# Altium footprint library NG_Mechanical.PcbLib: 18 footprints (part 1 of 2)
Each footprint in its own frame and in the unit in brackets; x right, y up, seen from the top. Pads: shape width x height; smd on the part's side, far side on the other; paste and mask are expansions set on the pad; w line width, h text height; cw(c..) or ccw(c..) is an arc to the next point about the centre after c.
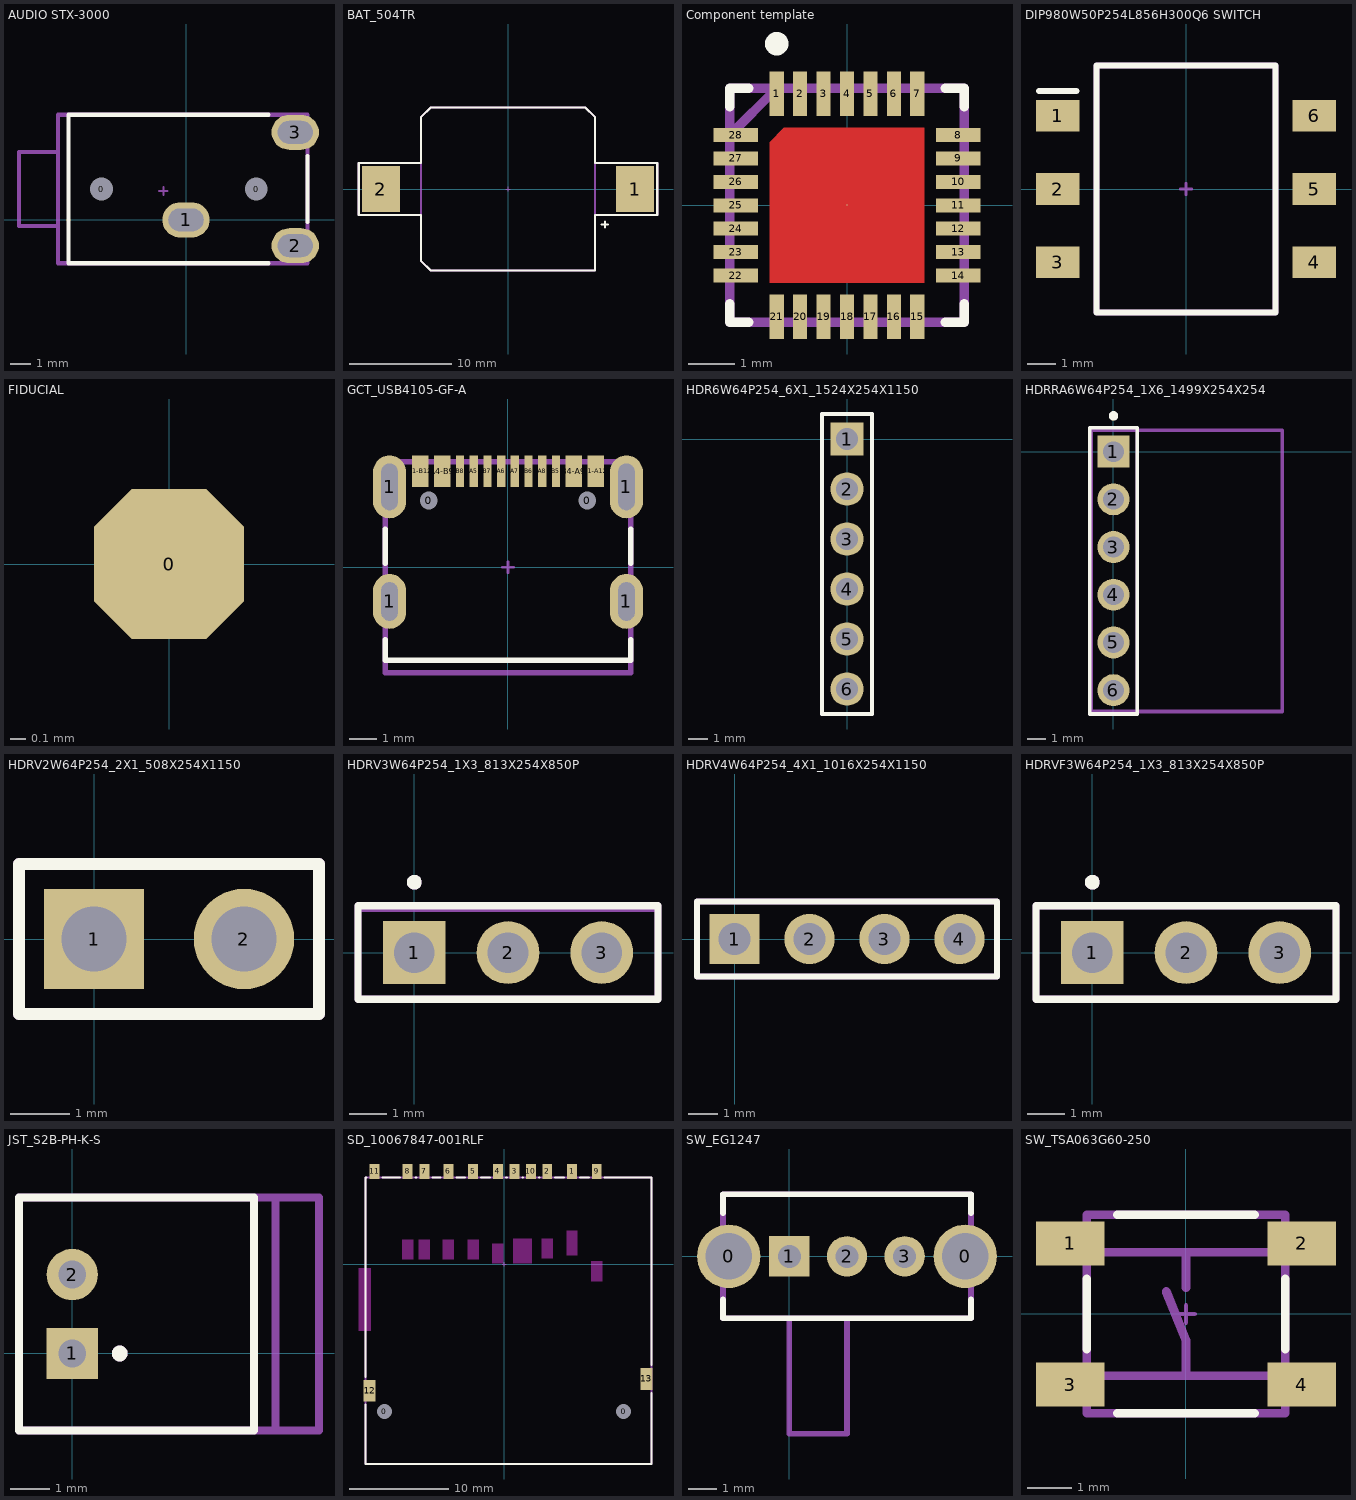
[diagram p0: the footprints below, top view; thin cyan lines are the x and y axes]

## AUDIO STX-3000 [mm] "3.5mm Audio connector, 3POS"
height 6
pads (5):
  round 0.5 hole 1.1 unplated mask+0.05: 0(-4.1,1.5) 0(3.4,1.5)
  oval 2.3x1.7 hole 1.1 slot 1.7 at 0 deg mask+0.05: 1(0,0) 2(5.3,-1.25) 3(5.3,4.25)
Top Overlay:
  lines w0.2: 4,-2.1 -5.7,-2.1 -5.7,5.1 4,5.1 ; 5.9,-0.1 5.9,3.1
Mechanical 4:
  text ".Designator" at -4.199,1.033 h0.8
Top Component Center:
  lines w0.1: -1.3,1.4 -0.9,1.4 ; -1.1,1.2 -1.1,1.6
Top Component Outline:
  lines w0.2: -6.2,-0.3 -6.2,-2.1 5.9,-2.1 5.9,5.1 -6.2,5.1 -6.2,3.3 ; -6.2,-0.3 -6.2,3.3 ; -6.2,-0.3 -8.1,-0.3 -8.1,1.5 -8.1,3.3 -6.2,3.3
Top Assembly:
  lines w0.2: -6.2,-0.3 -6.2,-2.1 5.9,-2.1 5.9,5.1 -6.2,5.1 -6.2,3.3 ; -6.2,-0.3 -6.2,3.3 ; -6.2,-0.3 -8.1,-0.3 -8.1,1.5 -8.1,3.3 -6.2,3.3
  text ".Comment" at -3.939,0.992 h1.02
3D body "STX-3000.stp": height 5.99, standoff -2.66, extent -8.1,-2.1 5.866,5.1

## BAT_504TR [mm] "Generic description"
height 0.8
pads (2):
  rect 3.75x4.5 smd mask+0.05: 1(12.475,0) 2(-12.475,0)
Top Overlay:
  lines w0.2: 9.2,-3.5 9.8,-3.5 ; 9.5,-3.8 9.5,-3.2 ; -14.65,-2.55 -14.65,2.55 -8.525,2.55 -8.525,7.075 -7.6,8 7.6,8 8.525,7.075 8.525,2.55 14.65,2.55 14.65,-2.55 8.525,-2.55 8.525,-8 -7.6,-8 -8.525,-7.075 -8.525,-2.55 -14.65,-2.55
Mechanical 4:
  text ".Designator" at 0.15,0.417 h0.8
Top Component Center:
  lines w0.1: -0.2,0 0.2,0 ; 0,-0.2 0,0.2
Top Component Outline:
  lines w0.2: -8.525,-2.55 -14.65,-2.55 -14.65,2.55 -8.525,2.55 ; 8.525,-2.55 14.65,-2.55 14.65,2.55 8.525,2.55 ; -8.525,-7.075 -7.6,-8 8.525,-8 8.525,7.075 7.6,8 -7.6,8 -8.525,7.075 -8.525,-7.075
Top Assembly:
  lines w0.2: -8.525,-2.55 -14.65,-2.55 -14.65,2.55 -8.525,2.55 ; 8.525,-2.55 14.65,-2.55 14.65,2.55 8.525,2.55 ; -8.525,-7.075 -7.6,-8 8.525,-8 8.525,7.075 7.6,8 -7.6,8 -8.525,7.075 -8.525,-7.075
  text ".Comment" at -3.639,-0.508 h1.02
3D body "504TR.step": height 5.38, standoff -0.15, extent -14.338,-8.001 14.338,8.001

## Component template [mm] "Generic description"
height 0.8
pads (29):
  rect 0.3x0.95 smd: 1(-1.5,2.38) 2(-1,2.38) 3(-0.5,2.38) 4(0,2.38) 5(0.5,2.38) 6(1,2.38) 7(1.5,2.38) 15(1.5,-2.38) 16(1,-2.38) 17(0.5,-2.38) 18(0,-2.38) 19(-0.5,-2.38) 20(-1,-2.38) 21(-1.5,-2.38)
  rect 0.95x0.3 smd: 8(2.38,1.5) 9(2.38,1) 10(2.38,0.5) 11(2.38,0) 12(2.38,-0.5) 13(2.38,-1) 14(2.38,-1.5) 22(-2.38,-1.5) 23(-2.38,-1) 24(-2.38,-0.5) 25(-2.38,0) 26(-2.38,0.5) 27(-2.38,1) 28(-2.38,1.5)
  round 0.025 smd: 29(0,0)
Top Layer:
  region: -1.65,-1.65 -1.65,1.35 -1.35,1.65 1.65,1.65 1.65,-1.65
Top Overlay:
  circle w0.3: c-1.5,3.45 r0.1
  lines w0.2: -2.5,-2.1 -2.5,-2.5 -2.1,-2.5 ; -2.5,2.1 -2.5,2.5 -2.1,2.5 ; 2.1,-2.5 2.5,-2.5 2.5,-2.1 ; 2.1,2.5 2.5,2.5 2.5,2.1
Mechanical 4:
  text ".Designator" at 0.15,0.417 h0.8
Top Component Center:
  lines w0.1: -0.2,0 0.2,0 ; 0,-0.2 0,0.2
Top Component Outline:
  lines w0.2: -2.5,1.5 -1.5,2.5 ; -2.5,-2.5 -2.5,2.5 2.5,2.5 2.5,-2.5 -2.5,-2.5
3D body "21-0140L_T2855-8_MXM.step": height 0.81, standoff 0, extent -2.553,-2.553 2.553,2.553

## DIP980W50P254L856H300Q6 SWITCH [mm] "DIP SWITCH 3WAY"
height 3
pads (6):
  rect 1.5x1.1 smd mask+0.05: 1(-4.45,2.54) 2(-4.45,0) 3(-4.45,-2.54) 4(4.45,-2.54) 5(4.45,0) 6(4.45,2.54)
Top Overlay:
  lines w0.2: -5.1,3.4 -3.8,3.4 ; -3.1,-4.28 -3.1,4.28 3.1,4.28 3.1,-4.28 -3.1,-4.28
Mechanical 4:
  text ".Designator" at 0.267,-3.999 h0.8
Top Component Center:
  lines w0.1: -0.2,0 0.2,0 ; 0,-0.2 0,0.2
Top Component Outline:
  lines w0.2: -3.1,-4.28 3.1,-4.28 3.1,4.28 -3.1,4.28 -3.1,-4.28
Top Assembly:
  lines w0.2: -3.1,-4.28 3.1,-4.28 3.1,4.28 -3.1,4.28 -3.1,-4.28
  text ".Comment" at 0.508,-3.639 h1.02
3D body "A6S_3101_H.step": height 3.7, standoff 0, extent -4.9,-4.24 4.9,4.32

## FIDUCIAL [mm]
pads (1):
  oct 1x1 smd mask-2539.97: 0(0,0)
Top Solder:
  region: -0.5,-1 -1,-0.5 -1,0.5 -0.5,1 0.5,1 1,0.5 1,-0.5 0.5,-1

## GCT_USB4105-GF-A [mm] "CONN USB 2.0 TYPE C"
height 3.31
pads (18):
  round 0.5 hole 0.65 unplated mask+0.102: 0(-2.89,2.428) 0(2.89,2.428)
  oval 1.2x2 hole 0.6 slot 1.4 at 90 deg mask+0.05: 1(-4.32,-1.252) 1(4.32,-1.252)
  oval 1.2x2.3 hole 0.6 slot 1.7 at 90 deg mask+0.05: 1(-4.32,2.927) 1(4.32,2.927)
  rect 0.6x1.15 smd mask+0.05: A1-B12(-3.2,3.503) A4-B9(-2.4,3.503) B1-A12(3.2,3.503) B4-A9(2.4,3.503)
  rect 0.3x1.15 smd mask+0.05: A5(-1.25,3.503) A6(-0.25,3.503) A7(0.25,3.503) A8(1.25,3.503) B5(1.75,3.503) B6(0.75,3.503) B7(-0.75,3.503) B8(-1.75,3.503)
Top Overlay:
  lines w0.2: -4.47,-2.652 -4.47,-3.4 4.47,-3.4 4.47,-2.652 ; -4.47,0.148 -4.47,1.378 ; 4.47,0.148 4.47,1.378
Mechanical 4:
  text ".Designator" at 0.15,0.414 h0.8
Top Component Center:
  lines w0.1: -0.2,-0.002 0.2,-0.002 ; 0,-0.202 0,0.198
Top Component Outline:
  lines w0.2: -4.47,-3.852 4.47,-3.852 4.47,3.848 -4.47,3.848 -4.47,-3.852
Top Assembly:
  lines w0.2: -4.475,-3.85 -4.475,3.85 4.475,3.85 4.475,-3.85 -4.475,-3.85
  text ".Comment" at -3.639,-0.508 h1.02
3D body "USB4105-GF-A-120.stp": height 3.26, standoff -1.2, extent -4.47,-3.852 4.47,3.848

## HDR6W64P254_6X1_1524X254X1150 [mm] "Pin header 6X1 right angle"
height 2.54
pads (6):
  rect 1.7x1.7 hole 1.1 mask+0.05: 1(0,0)
  round 1.7 hole 1.1 mask+0.05: 2(0,-2.54) 3(0,-5.08) 4(0,-7.62) 5(0,-10.16) 6(0,-12.7)
Top Overlay:
  lines w0.2: -1.27,-13.97 1.27,-13.97 1.27,1.27 -1.27,1.27 -1.27,-13.97
Mechanical 4:
  text ".Designator" at 0.15,0.417 h0.8
Top Component Center:
  lines w0.1: -0.2,0 0.2,0 ; 0,-0.2 0,0.2
Top Component Outline:
  lines w0.2: -1.27,-13.97 1.27,-13.97 1.27,1.27 -1.27,1.27 -1.27,-13.97
Top Assembly:
  lines w0.2: -1.27,-13.97 1.27,-13.97 1.27,1.27 -1.27,1.27 -1.27,-13.97
  text ".Comment" at 0.508,-9.989 h1.02

## HDRRA6W64P254_1X6_1499X254X254 [mm] "Pin header 6X1 right angle"
height 2.54
pads (6):
  rect 1.7x1.7 hole 1.1 mask+0.05: 1(0,0)
  round 1.7 hole 1.1 mask+0.05: 2(0,-2.54) 3(0,-5.08) 4(0,-7.62) 5(0,-10.16) 6(0,-12.7)
Top Overlay:
  circle w0.3: c0,1.905 r0.1
  lines w0.2: -1.27,-13.97 1.27,-13.97 1.27,1.27 -1.27,1.27 -1.27,-13.97
Mechanical 4:
  text ".Designator" at 0.15,0.417 h0.8
Top Component Center:
  lines w0.1: -0.2,0 0.2,0 ; 0,-0.2 0,0.2
Top Component Outline:
  lines w0.2: -1.194,-13.843 -1.194,1.143 8.992,1.143 8.992,-13.843 -1.194,-13.843
Top Assembly:
  lines w0.2: -1.27,-13.97 -1.27,1.27 1.27,1.27 1.27,-13.97 -1.27,-13.97
  text ".Comment" at 0.508,-9.989 h1.02
3D body "022052061.stp": height 5.92, standoff -3.53, extent -1.181,-13.843 8.992,1.143

## HDRV2W64P254_2X1_508X254X1150 [mm] "Generic description"
height 0.8
pads (2):
  rect 1.7x1.7 hole 1.1 mask+0.05: 1(0,0)
  round 1.7 hole 1.1 mask+0.05: 2(2.54,0)
Top Overlay:
  lines w0.2: -1.27,-1.27 -1.27,1.27 3.81,1.27 3.81,-1.27 -1.27,-1.27
Mechanical 4:
  text ".Designator" at 0.15,0.417 h0.8
Top Component Center:
  lines w0.1: -0.2,0 0.2,0 ; 0,-0.2 0,0.2
Top Component Outline:
  lines w0.2: -1.27,-1.27 -1.27,1.27 3.81,1.27 3.81,-1.27 -1.27,-1.27
Top Assembly:
  lines w0.2: -1.27,-1.27 -1.27,1.27 3.81,1.27 3.81,-1.27 -1.27,-1.27
  text ".Comment" at -2.369,-0.508 h1.02
3D body "61300211121_Download_STP_61300211121_rev1.stp": height 8.54, standoff -3, extent -1.27,-1.27 3.81,1.27

## HDRV3W64P254_1X3_813X254X850P [mm] "Generic description"
height 0.8
pads (3):
  rect 1.7x1.7 hole 1.1 mask+0.05: 1(0,0)
  round 1.7 hole 1.1 mask+0.05: 2(2.54,0) 3(5.08,0)
Top Overlay:
  circle w0.2: c0,1.905 r0.1
  lines w0.2: -1.524,-1.27 -1.524,1.27 6.604,1.27 6.604,-1.27 -1.524,-1.27
Mechanical 4:
  text ".Designator" at 0.15,0.417 h0.8
Top Component Center:
  lines w0.1: -0.2,0 0.2,0 ; 0,-0.2 0,0.2
Top Component Outline:
  circle w0.2: c0,1.905 r0.1
  lines w0.2: -1.524,-1.27 -1.524,1.27 6.604,1.27 6.604,-1.27 -1.524,-1.27
Top Assembly:
  lines w0.2: -1.524,-1.27 6.604,-1.27 6.604,1.2 -1.524,1.2 -1.524,-1.27
  text ".Comment" at -1.099,-0.508 h1.02
3D body "TSW-103-07-T-S.stp": height 5.21, standoff -3.3, extent -1.397,-1.27 6.35,1.27

## HDRV4W64P254_4X1_1016X254X1150 [mm] "Generic description"
height 0.8
pads (4):
  rect 1.7x1.7 hole 1.1 mask+0.05: 1(0,0)
  round 1.7 hole 1.1 mask+0.05: 2(2.54,0) 3(5.08,0) 4(7.62,0)
Top Overlay:
  lines w0.2: -1.27,-1.27 8.89,-1.27 8.89,1.27 -1.27,1.27 -1.27,-1.27
Mechanical 4:
  text ".Designator" at 0.15,0.417 h0.8
Top Component Center:
  lines w0.1: -0.2,0 0.2,0 ; 0,-0.2 0,0.2
Top Component Outline:
  lines w0.2: -1.27,-1.27 8.89,-1.27 8.89,1.27 -1.27,1.27 -1.27,-1.27
Top Assembly:
  lines w0.2: -1.27,-1.27 8.89,-1.27 8.89,1.27 -1.27,1.27 -1.27,-1.27
  text ".Comment" at 0.171,-0.508 h1.02
3D body "61300411121.stp": height 8.64, standoff -3.1, extent -1.27,-1.27 8.89,1.27

## HDRVF3W64P254_1X3_813X254X850P [mm] "Generic description"
height 0.8
pads (3):
  rect 1.7x1.7 hole 1.1 mask+0.05: 1(0,0)
  round 1.7 hole 1.1 mask+0.05: 2(2.54,0) 3(5.08,0)
Top Overlay:
  circle w0.2: c0,1.905 r0.1
  lines w0.2: -1.524,-1.27 6.604,-1.27 6.604,1.27 -1.524,1.27 -1.524,-1.27
Mechanical 4:
  text ".Designator" at 0.15,0.417 h0.8
Top Component Center:
  lines w0.1: -0.2,0 0.2,0 ; 0,-0.2 0,0.2
Top Component Outline:
  circle w0.2: c0,1.905 r0.1
  lines w0.2: -1.524,-1.27 6.604,-1.27 6.604,1.27 -1.524,1.27 -1.524,-1.27
Top Assembly:
  lines w0.2: -1.524,-1.27 -1.524,1.27 6.604,1.27 6.604,-1.27 -1.524,-1.27
  text ".Comment" at -1.099,-0.508 h1.02
3D body "PPTC031LFBN-RC.STEP": height 8.51, standoff -3.2, extent -1.524,-1.27 6.604,1.27

## JST_S2B-PH-K-S [mm] "Generic description"
height 4.8
pads (2):
  rect 1.3x1.3 hole 0.7 mask+0.05: 1(0,0)
  round 1.3 hole 0.7 mask+0.05: 2(0,2)
Top Overlay:
  circle w0.2: c1.2,0 r0.1
  lines w0.2: -1.35,-1.95 4.6,-1.95 4.6,3.95 -1.35,3.95 -1.35,-1.95
Mechanical 4:
  text ".Designator" at 0.15,0.417 h0.8
Top Component Center:
  lines w0.1: -0.2,0 0.2,0 ; 0,-0.2 0,0.2
Top Component Outline:
  circle w0.2: c1.2,0 r0.1
  lines w0.2: -1.35,-1.95 6.25,-1.95 6.25,3.95 -1.35,3.95 -1.35,-1.95
Top Assembly:
  lines w0.2: -1.35,-1.95 -1.35,3.95 5.15,3.95 5.15,-1.95 -1.35,-1.95
  text ".Comment" at -0.364,-1.933 h1.02
3D body "S2B-PH-K-S.STEP": height 4.8, standoff -3.38, extent -1.35,-1.95 6.25,3.95

## SD_10067847-001RLF [mm] "SD card connector"
height 2.8
pads (15):
  round 1 hole 1.5 unplated: 0(-12.1,-14.925) 0(12.1,-14.925)
  rect 1x1.5 smd mask+0.05: 1(6.875,9.375) 2(4.375,9.375) 3(1.075,9.375) 4(-0.625,9.375) 5(-3.125,9.375) 6(-5.625,9.375) 7(-8.05,9.375) 8(-9.75,9.375) 9(9.375,9.375) 10(2.725,9.375) 11(-13.1,9.375)
  rect 1.2x2.2 smd mask+0.05: 12(-13.6,-12.825) 13(14.4,-11.625)
Top Overlay:
  lines w0.2: -14,-14.225 -14,-20.225 14.9,-20.225 14.9,-13.025 ; -14,-11.425 -14,8.775 -13.9,8.775 ; -12.3,8.775 -10.55,8.775 ; -8.95,8.775 -8.85,8.775 ; -7.25,8.775 -6.425,8.775 ; -4.825,8.775 -3.925,8.775 ; -2.325,8.775 -1.425,8.775 ; 0.175,8.775 0.275,8.775 ; 1.875,8.775 1.925,8.775 ; 3.525,8.775 3.575,8.775 ; 5.175,8.775 6.075,8.775 ; 7.675,8.775 8.575,8.775 ; 10.175,8.775 14.9,8.775 14.9,-10.225
Keep-Out Layer:
  region: -10.31,0.475 -9.21,0.475 -9.21,2.475 -10.31,2.475
  region: -8.61,0.475 -7.51,0.475 -7.51,2.475 -8.61,2.475
  region: -6.18,0.475 -5.08,0.475 -5.08,2.475 -6.18,2.475
  region: -3.68,0.475 -2.58,0.475 -2.58,2.475 -3.68,2.475
  region: -1.18,0.075 -0.08,0.075 -0.08,2.075 -1.18,2.075
  region: 3.82,0.575 4.92,0.575 4.92,2.575 3.82,2.575
  region: 6.32,0.875 7.42,0.875 7.42,3.375 6.32,3.375
  region: -14.7,-6.725 -13.5,-6.725 -13.5,-0.425 -14.7,-0.425
  region: 8.82,-1.725 9.92,-1.725 9.92,0.275 8.82,0.275
  region: 0.92,0.075 2.82,0.075 2.82,2.575 0.92,2.575
Mechanical 4:
  text ".Designator" at 0.15,0.417 h0.8
Top Component Center:
  lines w0.1: -0.2,0 0.2,0 ; 0,-0.2 0,0.2
Top Component Outline:
  lines w0.2: -14,-20.225 14.9,-20.225 14.9,8.775 -14,8.775 -14,-20.225
Top Assembly:
  lines w0.2: -14,-20.225 14.9,-20.225 14.9,8.775 -14,8.775 -14,-20.225
  text ".Comment" at -4.039,-6.658 h1.02
3D body "10067847-001RLF--3DModel-STEP-533217.STEP": height 2.9, standoff -0.7, extent -13.8,-20.425 14.65,9.825

## SW_EG1247 [mm] "Generic description"
height 0.8
pads (5):
  round 2.2 hole 1.6 mask+0.05: 0(-2.1,0) 0(6.1,0)
  rect 1.4x1.4 hole 0.8 mask+0.05: 1(0,0)
  round 1.4 hole 0.8 mask+0.05: 2(2,0) 3(4,0)
Top Overlay:
  lines w0.2: -2.3,-1.5 -2.3,-2.15 6.3,-2.15 6.3,-1.5 ; -2.3,1.5 -2.3,2.15 6.3,2.15 6.3,1.5
Mechanical 4:
  text ".Designator" at 0.15,0.417 h0.8
Top Component Center:
  lines w0.1: -0.2,0 0.2,0 ; 0,-0.2 0,0.2
Top Component Outline:
  lines w0.2: 0,-2.15 0,-6.15 2,-6.15 2,-2.15 ; -2.3,-2.15 -2.3,2.15 6.3,2.15 6.3,-2.15 -2.3,-2.15
Top Assembly:
  lines w0.2: -2.3,-2.15 6.3,-2.15 6.3,2.15 -2.3,2.15 -2.3,-2.15
  text ".Comment" at -1.639,-0.483 h1.02
3D body "EG1247.step": height 4.7, standoff -2.8, extent -2.3,-6.15 6.3,2.15

## SW_TSA063G60-250 [mm] "TACT SW TSA063G60-250"
height 7.3
pads (4):
  rect 1.55x1 smd mask+0.05: 1(-2.625,1.6) 2(2.625,1.6) 3(-2.625,-1.6) 4(2.625,-1.6)
Top Overlay:
  lines w0.2: -2.25,-0.8 -2.25,0.8 ; -1.55,-2.25 1.55,-2.25 ; -1.55,2.25 1.55,2.25 ; 2.25,-0.8 2.25,0.8
Mechanical 4:
  text ".Designator" at 0.15,0.417 h0.8
Top Component Center:
  lines w0.1: -0.2,0 0.2,0 ; 0,-0.2 0,0.2
Top Component Outline:
  lines w0.2: -2.25,1.4 2.25,1.4 ; -2.249,-1.4 2.251,-1.4 ; -0.449,0.51 0.001,-0.6 0.001,-1.4 ; 0,0.6 0,1.4 ; -2.25,-2.25 2.25,-2.25 2.25,2.25 -2.25,2.25 -2.25,-2.25
Top Assembly:
  lines w0.2: -2.25,-2.25 -2.25,2.25 2.25,2.25 2.25,-2.25 -2.25,-2.25
  text ".Comment" at -2.214,-2.933 h1.02
3D body "PTS647SN50SMTR2LFS.stp": height 5, standoff 0, extent -3.25,-2.25 3.25,2.25